# EAGLE library part 82C54 (library newchips)
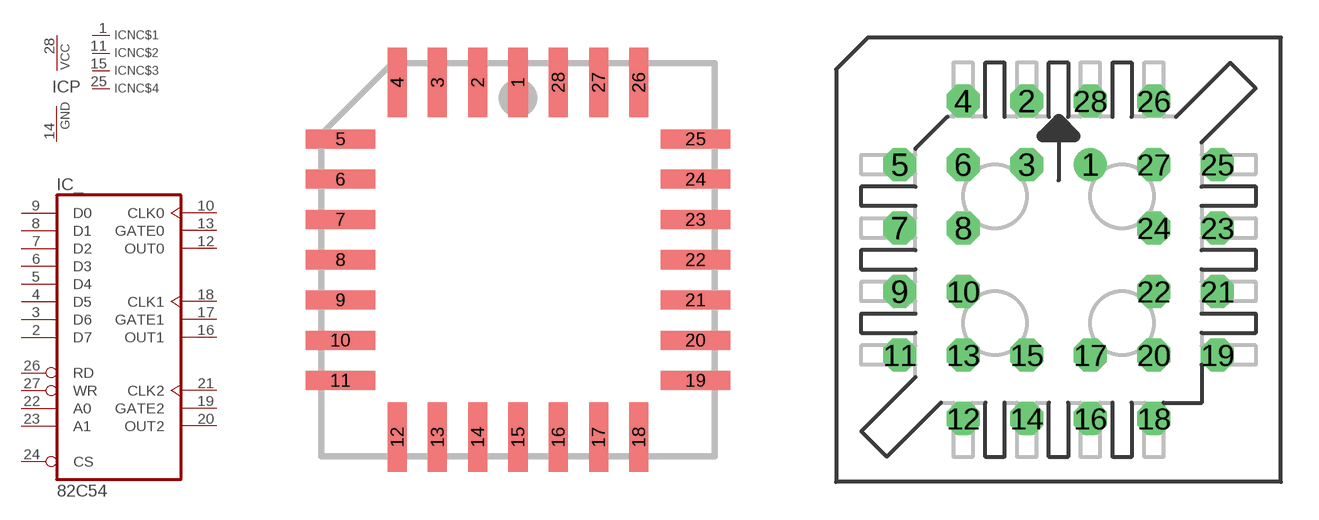
[diagram p18: symbol with the pads of PLCC28; footprints PLCC28, PLCC-S28]

Designator prefix IC; gates _=8254 P=PWRN NC$1=NC NC$2=NC NC$3=NC NC$4=NC

## 82C54PLCC  [PLCC28]
1  NC$1:NC  nc
2  _:D7
3  _:D6
4  _:D5
5  _:D4
6  _:D3
7  _:D2
8  _:D1
9  _:D0
10  _:CLK0  in
11  NC$2:NC  nc
12  _:OUT0  out
13  _:GATE0  in
14  P:GND  pwr
15  NC$3:NC  nc
16  _:OUT1  out
17  _:GATE1  in
18  _:CLK1  in
19  _:GATE2  in
20  _:OUT2  out
21  _:CLK2  in
22  _:A0  in
23  _:A1  in
24  _:CS  in
25  NC$4:NC  nc
26  _:RD  in
27  _:WR  in
28  P:VCC  pwr

## 82C54S_TH  [PLCC-S28]
Pads as for PLCC28

## Footprint PLCC28 (pad centres in mm)
smd 0.6 x 2.2: 1 0,5.6; 2 -1.27,5.6; 3 -2.54,5.6; 4 -3.81,5.6; 12 -3.81,-5.6; 13 -2.54,-5.6; 14 -1.27,-5.6; 15 0,-5.6; 16 1.27,-5.6; 17 2.54,-5.6; 18 3.81,-5.6; 26 3.81,5.6; 27 2.54,5.6; 28 1.27,5.6
smd 2.2 x 0.6: 5 -5.6,3.81; 6 -5.6,2.54; 7 -5.6,1.27; 8 -5.6,0; 9 -5.6,-1.27; 10 -5.6,-2.54; 11 -5.6,-3.81; 19 5.6,-3.81; 20 5.6,-2.54; 21 5.6,-1.27; 22 5.6,0; 23 5.6,1.27; 24 5.6,2.54; 25 5.6,3.81

## Footprint PLCC-S28 (pad centres in mm)
drill 0.813 round: 1 1.27,3.81
drill 0.813 octagon: 2 -1.27,6.35; 3 -1.27,3.81; 4 -3.81,6.35; 5 -6.35,3.81; 6 -3.81,3.81; 7 -6.35,1.27; 8 -3.81,1.27; 9 -6.35,-1.27; 10 -3.81,-1.27; 11 -6.35,-3.81; 12 -3.81,-6.35; 13 -3.81,-3.81; 14 -1.27,-6.35; 15 -1.27,-3.81; 16 1.27,-6.35; 17 1.27,-3.81; 18 3.81,-6.35; 19 6.35,-3.81; 20 3.81,-3.81; 21 6.35,-1.27; 22 3.81,-1.27; 23 6.35,1.27; 24 3.81,1.27; 25 6.35,3.81; 26 3.81,6.35; 27 3.81,3.81; 28 1.27,6.35